# Altium schematic symbol library S-8821.SchLib: 1 symbol
Pins are listed as number, name and electrical type; pins without a type are passive.

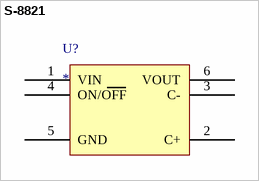
[diagram p0: symbol S-8821]

## S-8821
designator U?
pins: 1 VIN, 2 C+, 3 C-, 4 ON/OFF, 5 GND, 6 VOUT